# Altium schematic symbol library FUSE 1A 32V FAST.Schlib: 1 symbol
Pins are listed as number, name and electrical type; pins without a type are passive.

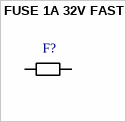
[diagram p0: symbol FUSE 1A 32V FAST]

## FUSE 1A 32V FAST
designator F?
FUSE 1A 32V DC 0603
pins: 1, 2